# Altium footprint library wch554e.PcbLib: 18 footprints (part 1 of 2)
Each footprint in its own frame and in the unit in brackets; x right, y up, seen from the top. Pads: shape width x height; smd on the part's side, far side on the other; paste and mask are expansions set on the pad; w line width, h text height; cw(c..) or ccw(c..) is an arc to the next point about the centre after c.
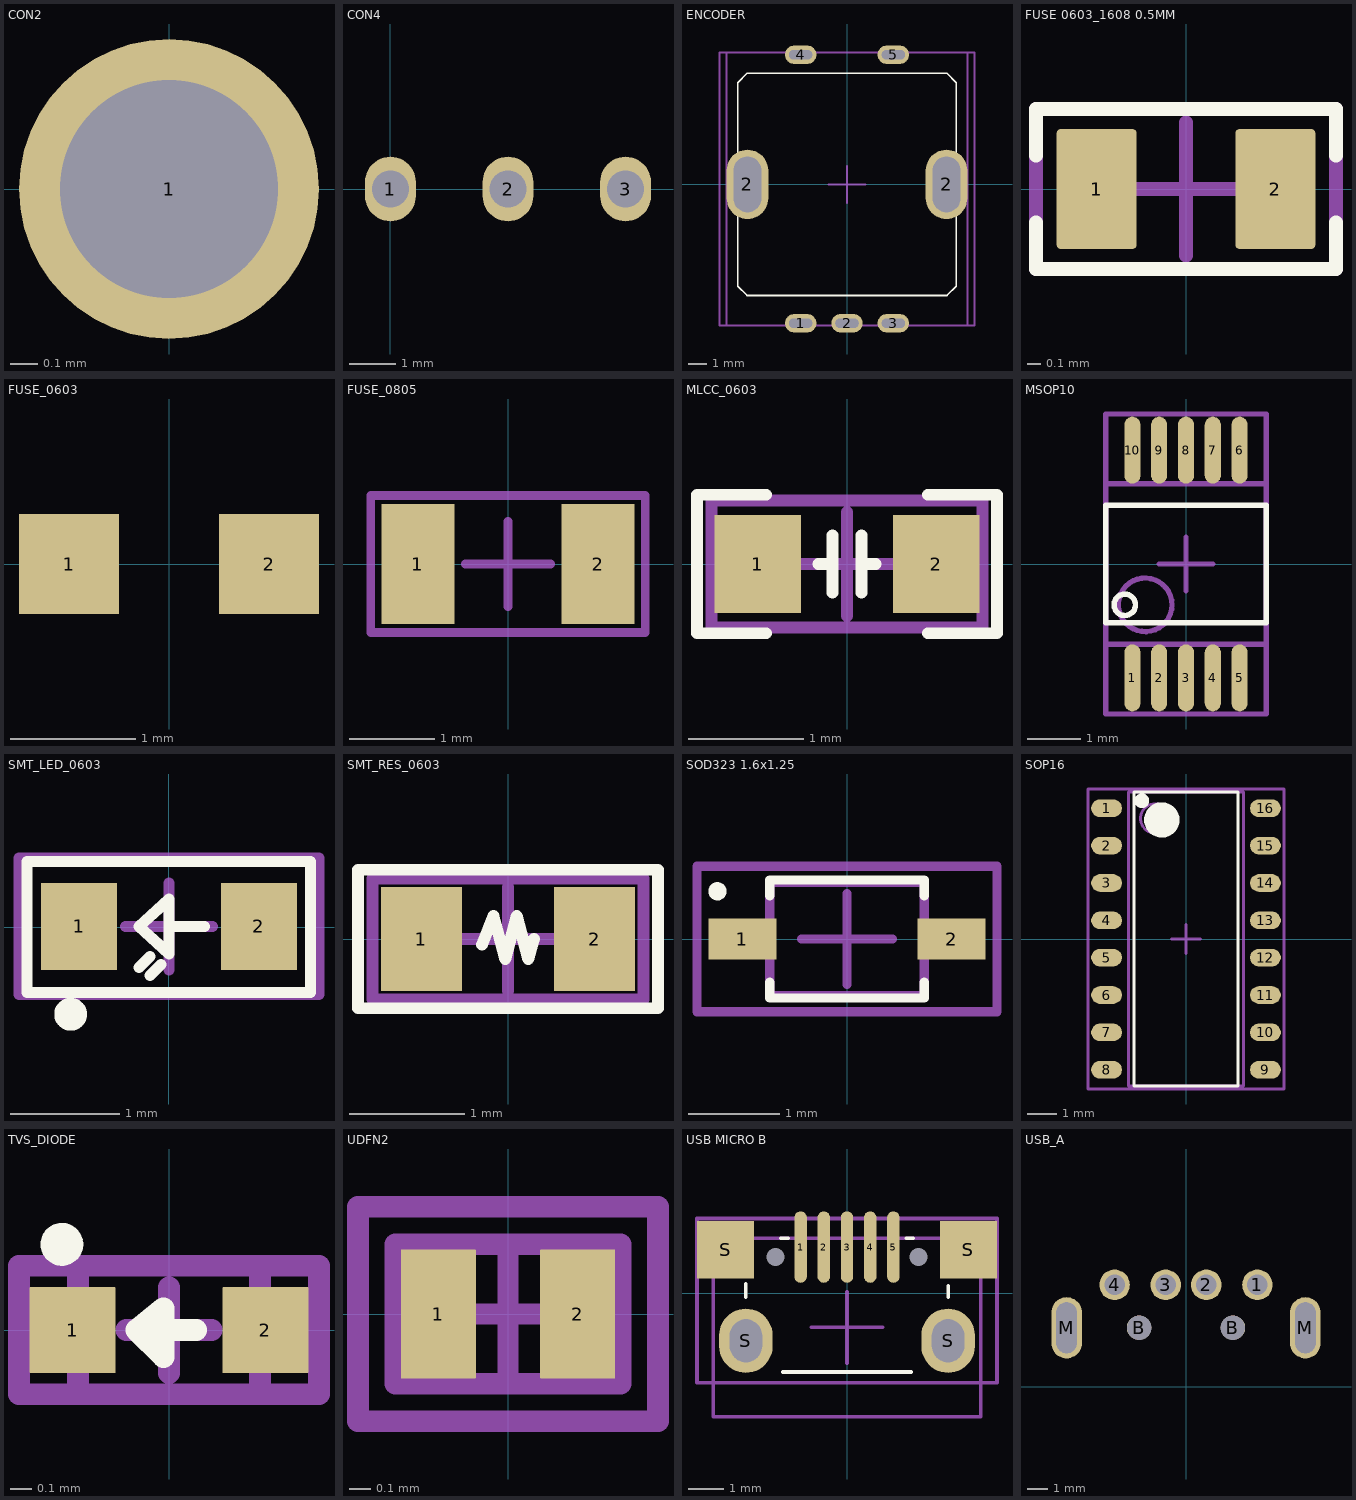
[diagram p0: the footprints below, top view; thin cyan lines are the x and y axes]

## CON2 [mm] "Debug header"
pads (1):
  rrect100% 1.1x1.1 hole 0.8: 1(0,0)

## CON4 [mm] "Debug header"
pads (3):
  rrect100% 1.1x1.4 hole 0.8: 1(0,0) 2(2.54,0) 3(5.08,0)

## ENCODER [mm] "Rotary encoder"
pads (7):
  oval 1.7x1 hole 0.5 slot 1.25 at 0 deg: 1(-2.5,-7.5) 2(0,-7.5) 3(2.5,-7.5) 4(-2.5,7) 5(2.5,7)
  rrect100% 2.25x3.75 hole 1.5 slot 3 at 90 deg: 2(-5.375,0)
  oval 2.25x3.75 hole 1.5 slot 3 at 90 deg: 2(5.375,0)
Top Overlay:
  lines w0.102: -5.9,-5.5 -5.9,5.5 -5.4,6 5.4,6 5.9,5.5 5.9,-5.5 5.4,-6 -5.4,-6 -5.9,-5.5
Top Assembly (Mech11):
  lines w0.102: -1,0 1,0 ; 0,-1 0,1 ; -6.875,-7.625 6.875,-7.625 6.875,7.125 -6.875,7.125 -6.875,-7.625
Top Courtyard:
  lines w0.102: -6.5,-7.625 -6.5,7.125 6.5,7.125 6.5,-7.625 -6.5,-7.625
3D body "EC11_Rotary_Encoder_Switched.STEP": height 21.18, standoff -3.4, extent -6.55,-7.68 6.55,7.08

## FUSE 0603_1608 0.5MM [mm] "Chip Fuse 1.5A AC 5V DC, 2-Leads, Body 1.54x0.85mm"
height 0.59
pads (2):
  rrect10% 0.6x0.9 smd: 1(-0.67,0) 2(0.67,0)
Top Overlay:
  lines w0.102: -1.125,-0.25 -1.125,-0.6 1.125,-0.6 1.125,-0.25 ; -1.125,0.25 -1.125,0.6 1.125,0.6 1.125,0.25
Top Courtyard:
  lines w0.102: -0.5,0 0,0 ; 0,-0.5 0,0 ; 0,0.5 0,0 ; 0.5,0 0,0 ; -1.125,-0.6 1.125,-0.6 1.125,0.6 -1.125,0.6 -1.125,-0.6
3D body "FUSE 0603_1608 0.5MM.step": height 0.58, standoff 0, extent -0.77,-0.425 0.77,0.425

## FUSE_0603 [mm] "FUSE 0603"
pads (2):
  rrect1% 0.8x0.8 smd: 1(-0.8,0) 2(0.8,0)

## FUSE_0805 [mm] "FUSE_0805"
pads (2):
  rrect1% 0.85x1.4 smd: 1(-1.05,0) 2(1.05,0)
Top Courtyard:
  lines w0.102: -0.5,0 0.5,0 ; 0,-0.5 0,0.5 ; -1.6,-0.8 1.6,-0.8 1.6,0.8 -1.6,0.8 -1.6,-0.8

## MLCC_0603 [mm] "MLCC 0603"
height 0.7
pads (2):
  rrect1% 0.75x0.85 smd: 1(-0.775,0) 2(0.775,0)
Top Overlay:
  lines w0.102: -0.7,-0.6 -1.3,-0.6 -1.3,0.6 -0.7,0.6 ; -0.25,0 -0.125,0 ; -0.125,-0.25 -0.125,0.25 ; 0.125,-0.25 0.125,0.25 ; 0.125,0 0.25,0 ; 0.7,-0.6 1.3,-0.6 1.3,0.6 0.7,0.6
Top Assembly (Mech11):
  lines w0.102: -1.175,-0.55 1.175,-0.55 1.175,0.55 -1.175,0.55 -1.175,-0.55
Top Courtyard:
  lines w0.102: -0.45,0 0.45,0 ; 0,-0.45 0,0.45 ; -1.175,-0.55 1.175,-0.55 1.175,0.55 -1.175,0.55 -1.175,-0.55
3D body "CAPC1608X07L.step": height 0.7, standoff 0, extent -0.85,-0.45 0.85,0.45

## MSOP10 [mm] "MSOP10 3x3 x 0.5"
height 1
pads (10):
  oval 0.3x1.25 smd: 1(-1,-2.125) 2(-0.5,-2.125) 3(0,-2.125) 4(0.5,-2.125) 5(1,-2.125) 6(1,2.125) 7(0.5,2.125) 8(0,2.125) 9(-0.5,2.125) 10(-1,2.125)
Top Overlay:
  circle w0.102: c-1.143,-0.762 r0.2
  lines w0.102: -1.5,-1.1 -1.5,1.1 1.5,1.1 1.5,-1.1 -1.5,-1.1
Top Assembly (Mech11):
  circle w0.1: c-0.762,-0.762 r0.5
  lines w0.102: -1.5,-1.5 -1.5,1.5 1.5,1.5 1.5,-1.5 -1.5,-1.5
Top Courtyard:
  lines w0.1: -0.5,0 0.5,0 ; 0,-0.5 0,0.5
  lines w0.102: -1.5,-2.8 -1.5,2.8 1.5,2.8 1.5,-2.8 -1.5,-2.8
3D body "MSOP10.step": height 1, standoff 0, extent -1.5,-2.3 1.5,2.3

## SMT_LED_0603 [mm] "SMT LED 0603"
height 2
pads (2):
  rrect1% 0.7x0.8 smd: 1(-0.823,0.005) 2(0.827,0.005)
Top Overlay:
  circle w0.2: c-0.9,-0.8 r0.05
  lines w0.102: -0.273,-0.37 -0.173,-0.27 ; -0.173,-0.445 -0.073,-0.345 ; 0.327,0.005 0.002,0.005 ; 0.002,0.005 0.002,0.255 -0.273,0.005 0.002,-0.245 0.002,0.005 ; -1.3,-0.6 -1.3,0.6 1.3,0.6 1.3,-0.6 -1.3,-0.6
Top Assembly (Mech11):
  lines w0.102: -0.398,0.005 0.402,0.005 ; 0.002,-0.395 0.002,0.405 ; -1.373,-0.62 1.377,-0.62 1.377,0.63 -1.373,0.63 -1.373,-0.62
Top Courtyard:
  lines w0.102: -1.373,-0.62 1.377,-0.62 1.377,0.63 -1.373,0.63 -1.373,-0.62
3D body "0603 Chip SMD LED (1.6x0.8mm)_coloured.STEP": height 0.8, standoff 0, extent -0.798,-0.395 0.802,0.405

## SMT_RES_0603 [mm] "0603 SMT Resistor"
height 0.5
pads (2):
  rrect1% 0.7x0.9 smd: 1(-0.75,0) 2(0.75,0)
Top Overlay:
  lines w0.102: -0.225,-0.05 -0.125,0.2 -0.025,-0.175 0.075,0.2 0.175,-0.175 0.225,0 ; -1.3,-0.6 1.3,-0.6 1.3,0.6 -1.3,0.6 -1.3,-0.6
Top Assembly (Mech11):
  lines w0.102: -1.175,-0.525 1.175,-0.525 1.175,0.525 -1.175,0.525 -1.175,-0.525
Top Courtyard:
  lines w0.102: -0.45,0 0.45,0 ; 0,-0.45 0,0.45 ; -1.175,-0.525 -1.175,0.525 1.175,0.525 1.175,-0.525 -1.175,-0.525
3D body "RESC1608X05L.step": height 0.5, standoff 0, extent -0.85,-0.45 0.85,0.45

## SOD323 1.6x1.25 [mm] "SODFL2 1.20x2.30mm"
height 0.9
pads (2):
  rrect1% 0.75x0.45 smd: 1(-1.15,0) 2(1.15,0)
Top Overlay:
  circle w0.1: c-1.425,0.525 r0.05
  lines w0.102: -0.85,-0.476 -0.85,-0.65 0.85,-0.65 0.85,-0.476 ; -0.85,0.476 -0.85,0.65 0.85,0.65 0.85,0.476
Top Assembly (Mech11):
  lines w0.102: -0.85,-0.625 -0.85,0.625 0.85,0.625 0.85,-0.625 -0.85,-0.625
Top Courtyard:
  lines w0.1: -0.5,0 0.5,0 ; 0,-0.5 0,0.5
  lines w0.102: -1.65,-0.8 -1.65,0.8 1.65,0.8 1.65,-0.8 -1.65,-0.8
3D body "SOD323 1.6x1.25.step": height 0.9, standoff 0, extent -1.15,-0.625 1.15,0.625

## SOP16 [mm] "SOP16 x1.27"
height 1.8
pads (16):
  oval 1.05x0.6 smd: 1(-2.7,4.445) 2(-2.7,3.175) 3(-2.7,1.905) 4(-2.7,0.635) 5(-2.7,-0.635) 6(-2.7,-1.905) 7(-2.7,-3.175) 8(-2.7,-4.445) 9(2.7,-4.445) 10(2.7,-3.175) 11(2.7,-1.905) 12(2.7,-0.635) 13(2.7,0.635) 14(2.7,1.905) 15(2.7,3.175) 16(2.7,4.445)
Top Overlay:
  circle w0.6: c-0.824,4.049 r0.3
  circle w0.25: c-1.5,4.7 r0.125
  lines w0.102: -1.775,-5 1.775,-5 1.775,5 -1.775,5 -1.775,-5
Top Assembly (Mech11):
  circle w0.1: c-1.049,4.099 r0.5
  lines w0.102: -1.95,-5 1.95,-5 1.95,5 -1.95,5 -1.95,-5
Top Courtyard:
  lines w0.1: -0.5,0 0.5,0 ; 0,-0.5 0,0.5
  lines w0.102: -3.325,-5.1 3.325,-5.1 3.325,5.1 -3.325,5.1 -3.325,-5.1
3D body "SOP16.step": height 1.8, standoff 0, extent -3,-5 3,5

## TVS_DIODE [mm] "SODFL 98x40 2 pin"
height 0.4
pads (2):
  rrect1% 0.4x0.4 smd: 1(-0.45,0) 2(0.45,0)
Top Overlay:
  circle w0.1: c-0.5,0.4 r0.05
  lines w0.102: 0.127,0 -0.152,0 ; -0.152,0 -0.025,0.102 -0.025,-0.127 -0.152,0
Top Assembly (Mech11):
  lines w0.102: -0.425,-0.3 0.425,-0.3 0.425,0.3 -0.425,0.3 -0.425,-0.3
Top Courtyard:
  lines w0.102: -0.2,0 0.2,0 ; 0,-0.2 0,0.2 ; -0.7,-0.3 -0.7,0.3 0.7,0.3 0.7,-0.3 -0.7,-0.3
3D body "SODFL98X40-2L.step": height 0.4, standoff 0, extent -0.487,-0.325 0.487,0.325

## UDFN2 [mm] "DFN2 0.60x1.00mm, 0.65mm"
height 0.4
pads (2):
  rrect1% 0.35x0.6 smd: 1(-0.325,0) 2(0.325,0)
Top Assembly (Mech11):
  lines w0.102: -0.525,-0.325 -0.525,0.325 0.525,0.325 0.525,-0.325 -0.525,-0.325
Top Courtyard:
  lines w0.1: -0.3,0 0.3,0 ; 0,-0.3 0,0.3
  lines w0.102: -0.7,-0.5 -0.7,0.5 0.7,0.5 0.7,-0.5 -0.7,-0.5
3D body "UDFN2.step": height 0.4, standoff 0, extent -0.525,-0.325 0.525,0.325

## USB MICRO B [mm] "USB Micro B Receptacle"
pads (11):
  rrect100% 0.35x2 smd: 1(-1.3,1.3) 2(-0.65,1.3) 3(0,1.3) 4(0.65,1.3) 5(1.3,1.3)
  oval 0x0.5 hole 0.5 unplated paste-2539.97 mask+0: B(-2,1.025) B(2,1.025)
  rrect1% 1.6x1.6 smd: S(-3.4,1.225) S(3.4,1.225)
  oval 1.5x1.8 hole 0.9 slot 1.2 at 90 deg: S(-2.83,-1.325) S(2.83,-1.325)
Top Overlay:
  lines w0.102: -2.83,-0.1 -2.83,0.273 ; -1.853,1.55 -1.653,1.55 ; -1.8,-2.2 1.8,-2.2 ; 1.66,1.55 1.86,1.55 ; 2.83,-0.1 2.83,0.207
Top Assembly (Mech11):
  lines w0.102: -1,-0.95 1,-0.95 ; 0,-1.95 0,0.05 ; -3.75,-3.45 3.75,-3.45 3.75,1.55 -3.75,1.55 -3.75,-3.45
Top Courtyard:
  lines w0.102: -4.2,-2.5 -4.2,2.1 4.2,2.1 4.2,-2.5 -4.2,-2.5
3D body "USB1-MICRO-USB-SMD.step": height 2.65, standoff -1.2, extent -3.75,-3.447 3.75,2.003

## USB_A [mm] "USB A Plug"
pads (8):
  round 1.5 hole 1: 1(3.5,5) 2(1,5) 3(-1,5) 4(-3.5,5)
  round 1.2 hole 1.2 unplated: B(-2.3,2.9) B(2.3,2.9)
  oval 1.5x3 hole 1 slot 2.5 at 90 deg: M(-5.85,2.9) M(5.85,2.9)
3D body "CUI_DEVICES_UP2-AH-1-TH.step": height 3.35, standoff -3, extent -6.3,-14.9 6.3,5.1